# Altium footprint library Passive Components.PcbLib: 7 footprints
Each footprint in its own frame and in the unit in brackets; x right, y up, seen from the top. Pads: shape width x height; smd on the part's side, far side on the other; paste and mask are expansions set on the pad; w line width, h text height; cw(c..) or ccw(c..) is an arc to the next point about the centre after c.
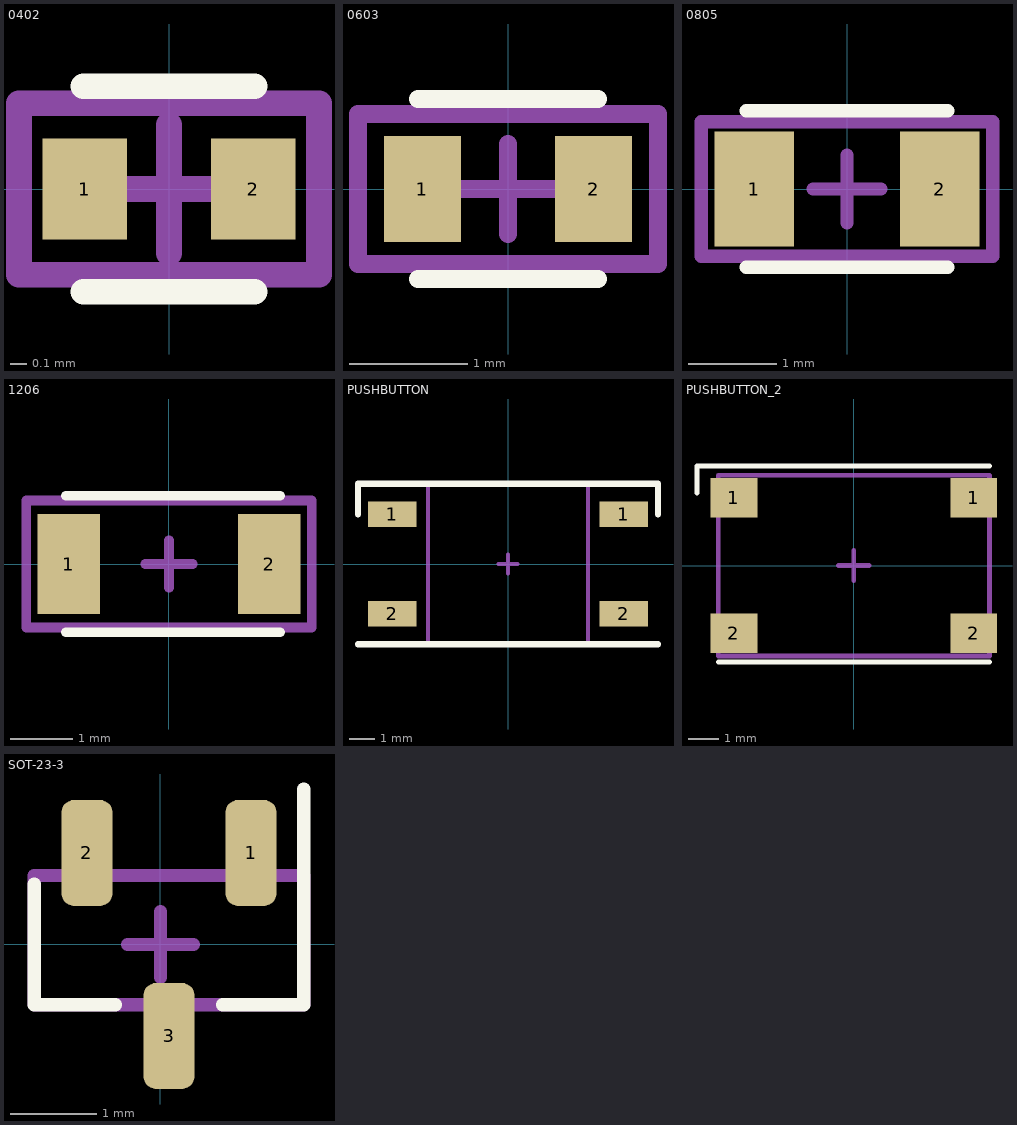
[diagram p0: the footprints below, top view; thin cyan lines are the x and y axes]

## 0402 [mm]
pads (2):
  rect 0.5x0.6 smd: 1(-0.5,0) 2(0.5,0)
Top Overlay:
  lines w0.152: -0.508,-0.61 0.508,-0.61 ; -0.508,0.61 0.508,0.61
Mechanical 3:
  lines w0.152: -0.889,-0.508 0.889,-0.508 0.889,0.508 -0.889,0.508 -0.889,-0.508
  text ".Designator" at -3.174,-0.212 h0.64
Mechanical 15:
  lines w0.152: -0.381,0 0.381,0 ; 0,-0.381 0,0.381
3D body "0402.STEP": height 0.4, standoff 0, extent -0.5,-0.25 0.5,0.25

## 0603 [mm]
pads (2):
  rect 0.65x0.9 smd: 1(-0.725,0) 2(0.725,0)
Top Overlay:
  lines w0.152: -0.762,-0.762 0.762,-0.762 ; -0.762,0.762 0.762,0.762
Mechanical 3:
  lines w0.152: -1.27,-0.635 1.27,-0.635 1.27,0.635 -1.27,0.635 -1.27,-0.635
  text ".Designator" at -3.174,-0.212 h0.64
Mechanical 15:
  lines w0.152: -0.381,0 0.381,0 ; 0,-0.381 0,0.381
3D body "RC0603JR-0710RL.STEP": height 0.55, standoff 0, extent -0.8,-0.4 0.8,0.4

## 0805 [mm]
pads (2):
  rect 0.9x1.3 smd: 1(-1.05,0) 2(1.05,0)
Top Overlay:
  lines w0.152: -1.143,-0.889 1.143,-0.889 ; -1.143,0.889 1.143,0.889
Mechanical 3:
  lines w0.152: -1.651,-0.762 1.651,-0.762 1.651,0.762 -1.651,0.762 -1.651,-0.762
  text ".Designator" at -3.174,-0.212 h0.64
Mechanical 15:
  lines w0.152: -0.381,0 0.381,0 ; 0,-0.381 0,0.381
3D body "RC0805FR-7W1K5L.STEP": height 0.58, standoff -0.02, extent -1,-0.625 1,0.625

## 1206 [mm]
pads (2):
  rect 1x1.6 smd: 1(-1.6,0) 2(1.6,0)
Top Overlay:
  lines w0.152: -1.651,-1.092 1.778,-1.092 ; -1.651,1.092 1.778,1.092
Mechanical 3:
  lines w0.152: -2.286,-1.016 2.286,-1.016 2.286,1.016 -2.286,1.016 -2.286,-1.016
  text ".Designator" at -3.174,-0.212 h0.64
Mechanical 15:
  lines w0.152: -0.381,0 0.381,0 ; 0,-0.381 0,0.381
3D body "PTS1206_VIS.step": height 0.56, standoff 0, extent -1.524,-0.8 1.524,0.8

## PUSHBUTTON [mm]
pads (4):
  rect 1.9x1 smd: 1(-4.55,1.95) 1(4.55,1.95) 2(-4.55,-1.95) 2(4.55,-1.95)
Top Overlay:
  lines w0.254: -5.9,-3.15 5.9,-3.15 ; -5.9,1.95 -5.9,3.15 5.9,3.15 5.9,1.95
Mechanical 3:
  lines w0.152: -3.15,-3.15 -3.15,3.15 3.15,3.15 3.15,-3.15 -3.15,-3.15
  text ".Designator" at -3.174,-0.212 h0.64
Mechanical 15:
  lines w0.152: -0.381,0 0.381,0 ; 0,-0.381 0,0.381
3D body "TL3301AF160QG--3DModel-STEP-613395.STEP": height 5.1, standoff 0, extent -5,-3 5,3

## PUSHBUTTON_2 [mm]
pads (4):
  rect 1.55x1.3 smd: 1(-3.975,2.25) 1(3.975,2.25) 2(-3.975,-2.25) 2(3.975,-2.25)
Top Overlay:
  lines w0.152: -5.2,2.4 -5.2,3.3 -4.5,3.3 4.5,3.3 ; -4.5,-3.2 4.5,-3.2
Mechanical 3:
  circle w0.508: c-3.975,2.25 r0.15
  lines w0.152: -4.5,-3 -4.5,3 4.5,3 4.5,-3 -4.5,-3
  text ".Designator" at -3.174,-0.212 h0.64
Mechanical 15:
  lines w0.152: -0.508,0 0.508,0 ; 0,-0.508 0,0.508
3D body "PTS645SM43SMTR92LFS.stp": height 4.3, standoff 0, extent -4.5,-3 4.5,3

## SOT-23-3 [mm]
pads (3):
  rrect50% 0.59x1.23 smd: 1(1.05,1.06) 2(-0.85,1.06) 3(0.1,-1.06)
Top Overlay:
  lines w0.152: -1.46,0.7 -1.46,-0.7 -0.52,-0.7 ; 0.72,-0.7 1.66,-0.7 1.66,1.8
Mechanical 3:
  circle w0.254: c1.05,1.06 r0.025
  lines w0.152: -1.46,-0.7 -1.46,0.8 1.66,0.8 1.66,-0.7 -1.46,-0.7
  text ".Designator" at -3.174,-0.212 h0.64
Mechanical 15:
  lines w0.152: -0.381,0 0.381,0 ; 0,-0.381 0,0.381
3D body "MAX810TEUR+T.STEP": height 1.12, standoff 0, extent -1.36,-1.175 1.56,1.175